# Altium schematic symbol library pam8403.SchLib: 1 symbol
Pins are listed as number, name and electrical type; pins without a type are passive.

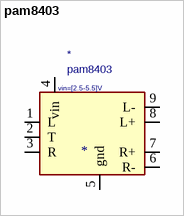
[diagram p0: symbol pam8403]

## pam8403
designator *  value pam8403
pins: 1 L, 2 T, 3 R, 4 vin, 5 gnd, 6 R-, 7 R+, 8 L+, 9 L-
text: vin=[2.5-5.5]V